# Altium schematic symbol library Switchcraft-components.SchLib: 9 symbols
Pins are listed as number, name and electrical type; pins without a type are passive.

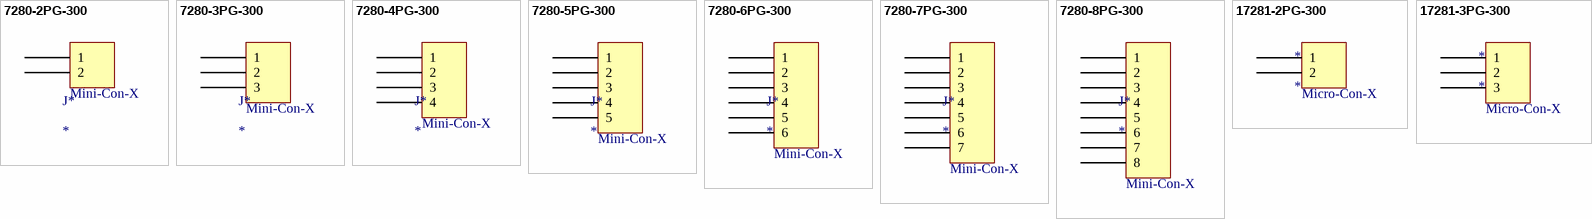
[diagram p0: symbols 7280-2PG-300 to 17281-3PG-300]

## 7280-2PG-300
designator J*
footprint 7281-2PG-300 (MINI-CON-X 2 POS #20 PIN)
pins: 1, 2
text: Mini-Con-X

## 7280-3PG-300
designator J*
footprint 7281-3PG-300 (MINI-CON-X 3 POS #20 PIN)
pins: 1, 2, 3
text: Mini-Con-X

## 7280-4PG-300
designator J*
footprint 7281-4PG-300 (MINI-CON-X 4 POS #20 PIN)
pins: 1, 2, 3, 4
text: Mini-Con-X

## 7280-5PG-300
designator J*
footprint 7281-5PG-300 (MINI-CON-X 5 POS #20 PIN)
pins: 1, 2, 3, 4, 5
text: Mini-Con-X

## 7280-6PG-300
designator J*
footprint 7281-6PG-300 (MINI-CON-X 6 POS #20 PIN)
pins: 1, 2, 3, 4, 5, 6
text: Mini-Con-X

## 7280-7PG-300
designator J*
footprint 7281-7PG-300 (MINI-CON-X 7 POS #20 PIN)
pins: 1, 2, 3, 4, 5, 6, 7
text: Mini-Con-X

## 7280-8PG-300
designator J*
footprint 7281-8PG-300 (MINI-CON-X 8 POS #20 PIN)
pins: 1, 2, 3, 4, 5, 6, 7, 8
text: Mini-Con-X

## 17281-2PG-300
designator *
pins: 1, 2
text: Micro-Con-X

## 17281-3PG-300
designator *
pins: 1, 2, 3
text: Micro-Con-X